# EAGLE library part LSM330DLCTR (library nonolith)
I2C/SPI accelerometer/gyroscope
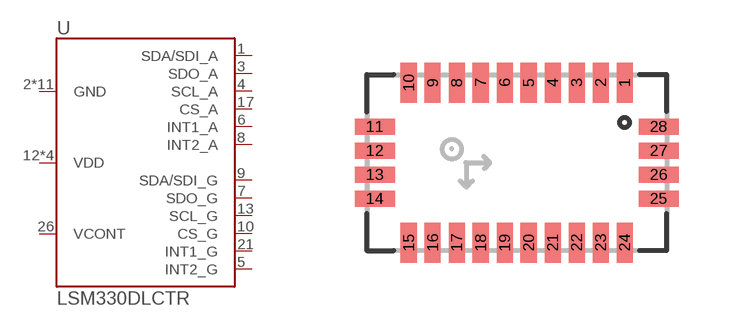
[diagram p28: symbol with the pads of LGA28L; footprint LGA28L]

Designator prefix U

## LSM330DLCTRLGA  [LGA28L]
1  SDA/SDI_A
2  GND
3  SDO_A
4  SCL_A
5  INT2_G
6  INT1_A
7  SDO_G
8  INT2_A
9  SDA/SDI_G
10  CS_G
11  GND
12  VDD
13  SCL_G
14  GND
15  VDD
16  GND
17  CS_A
18  GND
19  GND
20  GND
21  INT1_G
22  VDD
23  GND
24  GND
25  GND
26  VCONT
27  GND
28  VDD

## Footprint LGA28L (pad centres in mm)
smd 0.4 x 1: 1 2.7,2; 2 2.1,2; 3 1.5,2; 4 0.9,2; 5 0.3,2; 6 -0.3,2; 7 -0.9,2; 8 -1.5,2; 9 -2.1,2; 10 -2.7,2; 15 -2.7,-2; 16 -2.1,-2; 17 -1.5,-2; 18 -0.9,-2; 19 -0.3,-2; 20 0.3,-2; 21 0.9,-2; 22 1.5,-2; 23 2.1,-2; 24 2.7,-2
smd 1 x 0.4: 11 -3.55,0.9; 12 -3.55,0.3; 13 -3.55,-0.3; 14 -3.55,-0.9; 25 3.55,-0.9; 26 3.55,-0.3; 27 3.55,0.3; 28 3.55,0.9